# EAGLE library part AD8021ARMZ (library ad8021)
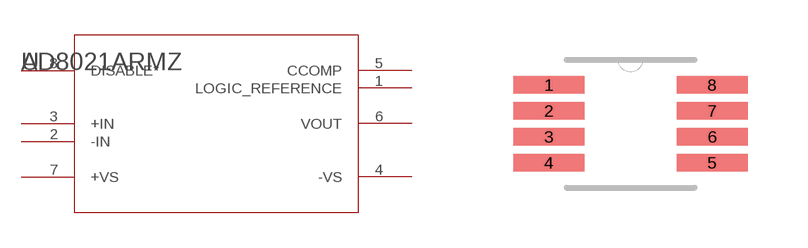
[diagram p0: symbol with the pads of RM_8; footprint RM_8]

Designator prefix U

## AD8021ARMZ (MANUFACTURER_PART_NUMBER: AD8021ARMZ; VENDOR: Vendor)  [RM_8]
1  LOGIC_REFERENCE  pas
2  -IN  pas
3  +IN  pas
4  -VS  pwr
5  CCOMP  pas
6  VOUT  pas
7  +VS  pwr
8  DISABLE*  pas

## Footprint RM_8 (pad centres in mm)
smd 1.778 x 0.432: 1 -2.045,0.975; 2 -2.045,0.325; 3 -2.045,-0.325; 4 -2.045,-0.975; 5 2.045,-0.975; 6 2.045,-0.325; 7 2.045,0.325; 8 2.045,0.975